# EAGLE library part SOCKET-26 (library con-3m-skt-header)
26 pin PCB Socket (3m 85xx/51xx)
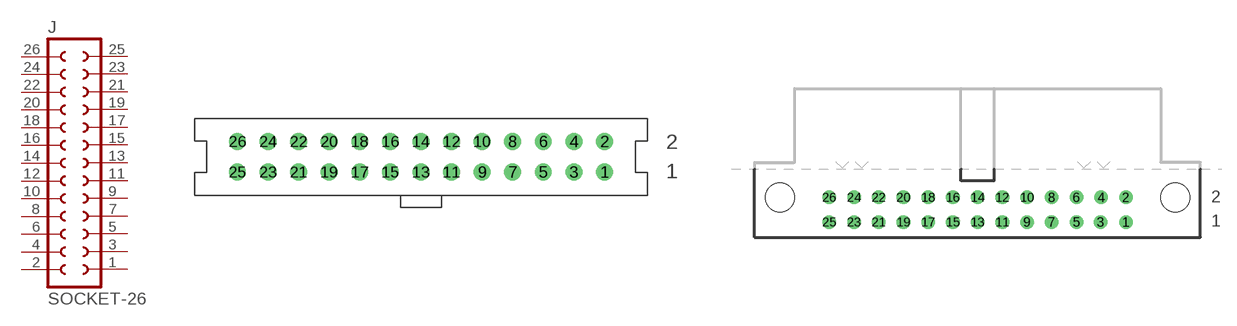
[diagram p3: symbol with the pads of S26V; footprints S26V, S26RA]

Designator prefix J

## SOCKET-26V  [S26V]
1  1  pas
2  2  pas
3  3  pas
4  4  pas
5  5  pas
6  6  pas
7  7  pas
8  8  pas
9  9  pas
10  10  pas
11  11  pas
12  12  pas
13  13  pas
14  14  pas
15  15  pas
16  16  pas
17  17  pas
18  18  pas
19  19  pas
20  20  pas
21  21  pas
22  22  pas
23  23  pas
24  24  pas
25  25  pas
26  26  pas

## SOCKET-26RA  [S26RA]
Pads as for S26V

## Footprint S26V (pad centres in mm)
26 pin Vertical PCB Socket 8526-xxxxx
drill 0.8 pad 1.4: 1 15.24,-1.27; 2 15.24,1.27; 3 12.7,-1.27; 4 12.7,1.27; 5 10.16,-1.27; 6 10.16,1.27; 7 7.62,-1.27; 8 7.62,1.27; 9 5.08,-1.27; 10 5.08,1.27; 11 2.54,-1.27; 12 2.54,1.27; 13 0,-1.27; 14 0,1.27; 15 -2.54,-1.27; 16 -2.54,1.27; 17 -5.08,-1.27; 18 -5.08,1.27; 19 -7.62,-1.27; 20 -7.62,1.27; 21 -10.16,-1.27; 22 -10.16,1.27; 23 -12.7,-1.27; 24 -12.7,1.27; 25 -15.24,-1.27; 26 -15.24,1.27

## Footprint S26RA (pad centres in mm)
26 pin R/A PCB socket 3M 5126-xxxxx
drill 0.8 pad 1.4: 1 15.24,-5.44; 2 15.24,-2.9; 3 12.62,-5.44; 4 12.7,-2.9; 5 10.16,-5.44; 6 10.16,-2.9; 7 7.62,-5.44; 8 7.62,-2.9; 9 5.08,-5.44; 10 5.08,-2.9; 11 2.54,-5.44; 12 2.54,-2.9; 13 0,-5.44; 14 0,-2.9; 15 -2.54,-5.44; 16 -2.54,-2.9; 17 -5.08,-5.44; 18 -5.08,-2.9; 19 -7.62,-5.44; 20 -7.62,-2.9; 21 -10.16,-5.44; 22 -10.16,-2.9; 23 -12.7,-5.44; 24 -12.7,-2.9; 25 -15.24,-5.44; 26 -15.24,-2.9
hole 3 at -20.31,-2.9
hole 3 at 20.31,-2.9